# Altium schematic symbol library MOSFET DUAL P N.Schlib: 1 symbol
Pins are listed as number, name and electrical type; pins without a type are passive.

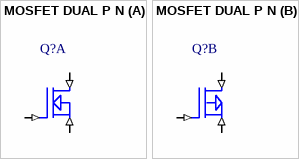
[diagram p0: symbol MOSFET DUAL P N]

## MOSFET DUAL P N
designator Q?
MOSFET, Dual
part A pins: 1 SOURCE (in), 2 GATE (in), 6 DRAIN (in)
part B pins: 3 DRAIN (in), 4 SOURCE (in), 5 GATE (in)
1 alternate drawing of the same symbol